# EAGLE library part MICROSD_SIM-COMBO (library BaseApp)
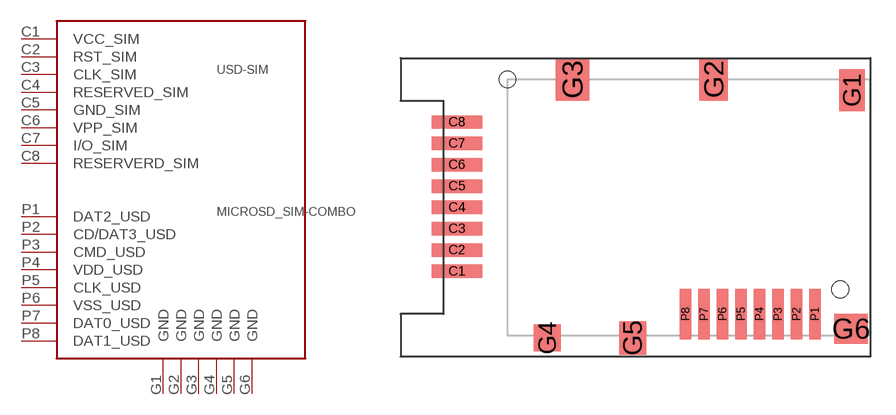
[diagram p150: symbol with the pads of MICROSD_SIM-COMBO-HINGED_LID; footprint MICROSD_SIM-COMBO-HINGED_LID]

Designator prefix USD-SIM

## MICROSD_SIM-COMBO-HINGED_LID (DIGIKEY: 101-00492-20-1-ND; PRICE_PER_UNIT: 2.52)  [MICROSD_SIM-COMBO-HINGED_LID]
C1  VCC_SIM
C2  RST_SIM
C3  CLK_SIM
C4  RESERVED_SIM
C5  GND_SIM
C6  VPP_SIM
C7  I/O_SIM
C8  RESERVERD_SIM
G1  GND
G2  GND
G3  GND
G4  GND
G5  GND
G6  GND
P1  DAT2_USD
P2  CD/DAT3_USD
P3  CMD_USD
P4  VDD_USD
P5  CLK_USD
P6  VSS_USD
P7  DAT0_USD
P8  DAT1_USD

## Footprint MICROSD_SIM-COMBO-HINGED_LID (pad centres in mm)
smd 3 x 0.8: C1 -3,-11.43; C2 -3,-10.16; C3 -3,-8.89; C4 -3,-7.62; C5 -3,-6.35; C6 -3,-5.08; C7 -3,-3.81; C8 -3,-2.54
smd 1.5 x 2.5: G1 20.5,-0.65
smd 1.7 x 2.5: G2 12.25,0
smd 2 x 2.5: G3 3.88,0
smd 1.6 x 1.6: G4 2.38,-15.4
smd 1.6 x 2: G5 7.45,-15.4
smd 2 x 1.8: G6 20.45,-14.85
smd 0.7 x 3: P1 18.3,-13.97; P2 17.2,-13.97; P3 16.1,-13.97; P4 15,-13.97; P5 13.9,-13.97; P6 12.8,-13.97; P7 11.7,-13.97; P8 10.6,-13.97
hole 1 at 0,0
hole 1 at 19.8,-12.5